# EAGLE library part LMR51625YFDDCR (library SamacSys_Parts)
Functional Safety-Capable Documentation available to aid functional safety system design Configured for rugged industrial applications: 4.3V to 60V input voltage range 2.5A or 3.5A continuous output current Low operating quiescent current of 29uA 70ns minimum switching on time 400kHz amd 1.1MHz switching frequency Frequency spread spectrum (PFM variant) 40C to 150C junction temperature range 96% maximum duty cycle Monotonic start-up with prebiased output Short-circu Source: Datasheet <https://www.mouser.kr/ProductDetail/Texas-Instruments/LMR51625YFDDCR?qs=efUn273yAhe0Di9PgWnVVg==>
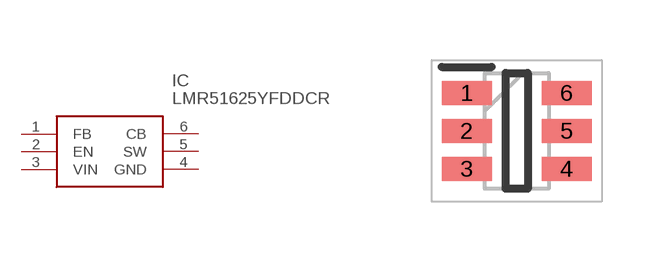
[diagram p46: symbol with the pads of SOT95P280X110-6N; footprint SOT95P280X110-6N]

Designator prefix IC

## LMR51625YFDDCR (DESCRIPTION: Functional Safety-Capable Documentation available to aid functional safety system design Configured for rugged industrial applications: 4.3V to 60V input voltage range 2.5A or 3.5A continuous output current Low operating quiescent current of 29uA 70ns minimum switching on time 400kHz amd 1.1MHz switching frequency Frequency spread spectrum (PFM variant) 40C to 150C junction temperature range 96% maximum duty cycle Monotonic start-up with prebiased output Short-circu; HEIGHT: 1.1mm; MANUFACTURER_NAME: Texas Instruments; MANUFACTURER_PART_NUMBER: LMR51625YFDDCR; MOUSER_PART_NUMBER: 595-LMR51625YFDDCR; MOUSER_PRICE-STOCK: https://www.mouser.co.uk/ProductDetail/Texas-Instruments/LMR51625YFDDCR?qs=efUn273yAhe0Di9PgWnVVg%3D%3D)  [SOT95P280X110-6N]
1  FB
2  EN
3  VIN
4  GND
5  SW
6  CB

## Footprint SOT95P280X110-6N (pad centres in mm)
DDC0006A
smd 1.25 x 0.6: 1 -1.25,0.95; 2 -1.25,0; 3 -1.25,-0.95; 4 1.25,-0.95; 5 1.25,0; 6 1.25,0.95